# EAGLE library part SKY13330-397LF (library My_Library_2)
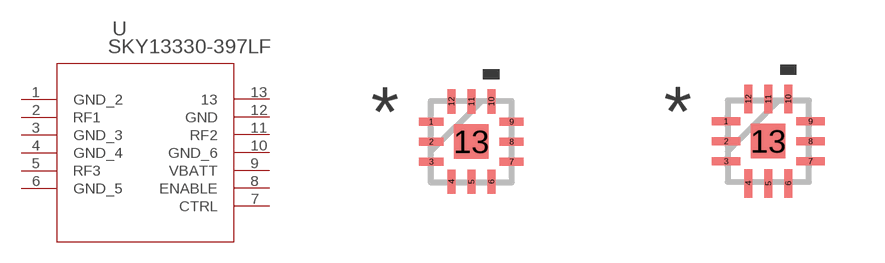
[diagram p2: symbol with the pads of QFN_330-397LF_SKY; footprints QFN_330-397LF_SKY, QFN_330-397LF_SKY-M]

Designator prefix U

## SKY13330-397LF (COPYRIGHT: Copyright (C) 2024 Ultra Librarian. All rights reserved.; MANUFACTURER_PART_NUMBER: SKY13330-397LF; MFR_NAME: Skyworks)  [QFN_330-397LF_SKY]
1  GND_2  pas
2  RF1
3  GND_3  pas
4  GND_4  pas
5  RF3
6  GND_5  pas
7  CTRL  pas
8  ENABLE  pas
9  VBATT  pas
10  GND_6  pas
11  RF2
12  GND  pas
13  13  pas

## SKY13330-397LFQFN_330-397LF_SKY-M (COPYRIGHT: Copyright (C) 2024 Ultra Librarian. All rights reserved.; MANUFACTURER_PART_NUMBER: SKY13330-397LF; MFR_NAME: Skyworks)  [QFN_330-397LF_SKY-M]
Pads as for QFN_330-397LF_SKY

## SKY13330-397LFQFN_330-397LF_SKY-L (COPYRIGHT: Copyright (C) 2024 Ultra Librarian. All rights reserved.; MANUFACTURER_PART_NUMBER: SKY13330-397LF; MFR_NAME: Skyworks)  [QFN_330-397LF_SKY-L]
Pads as for QFN_330-397LF_SKY

## Footprint QFN_330-397LF_SKY (pad centres in mm)
smd 0.61 x 0.203: 1 -1.003,0.5; 2 -1.003,0; 3 -1.003,-0.5; 7 1.003,-0.5; 8 1.003,0; 9 1.003,0.5
smd 0.203 x 0.61: 4 -0.5,-1.003; 5 0,-1.003; 6 0.5,-1.003; 10 0.5,1.003; 11 0,1.003; 12 -0.5,1.003
smd 0.864 x 0.864: 13 0,0

## Footprint QFN_330-397LF_SKY-M (pad centres in mm)
smd 0.711 x 0.203: 1 -1.054,0.5; 2 -1.054,0; 3 -1.054,-0.5; 7 1.054,-0.5; 8 1.054,0; 9 1.054,0.5
smd 0.203 x 0.711: 4 -0.5,-1.054; 5 0,-1.054; 6 0.5,-1.054; 10 0.5,1.054; 11 0,1.054; 12 -0.5,1.054
smd 0.864 x 0.864: 13 0,0

## Footprint QFN_330-397LF_SKY-L (pad centres in mm)
smd 0.508 x 0.203: 1 -0.953,0.5; 2 -0.953,0; 3 -0.953,-0.5; 7 0.953,-0.5; 8 0.953,0; 9 0.953,0.5
smd 0.203 x 0.508: 4 -0.5,-0.953; 5 0,-0.953; 6 0.5,-0.953; 10 0.5,0.953; 11 0,0.953; 12 -0.5,0.953
smd 0.864 x 0.864: 13 0,0